# Altium schematic symbol library 水下机器人电调控制板2020.SchLib: 40 symbols
Pins are listed as number, name and electrical type; pins without a type are passive.

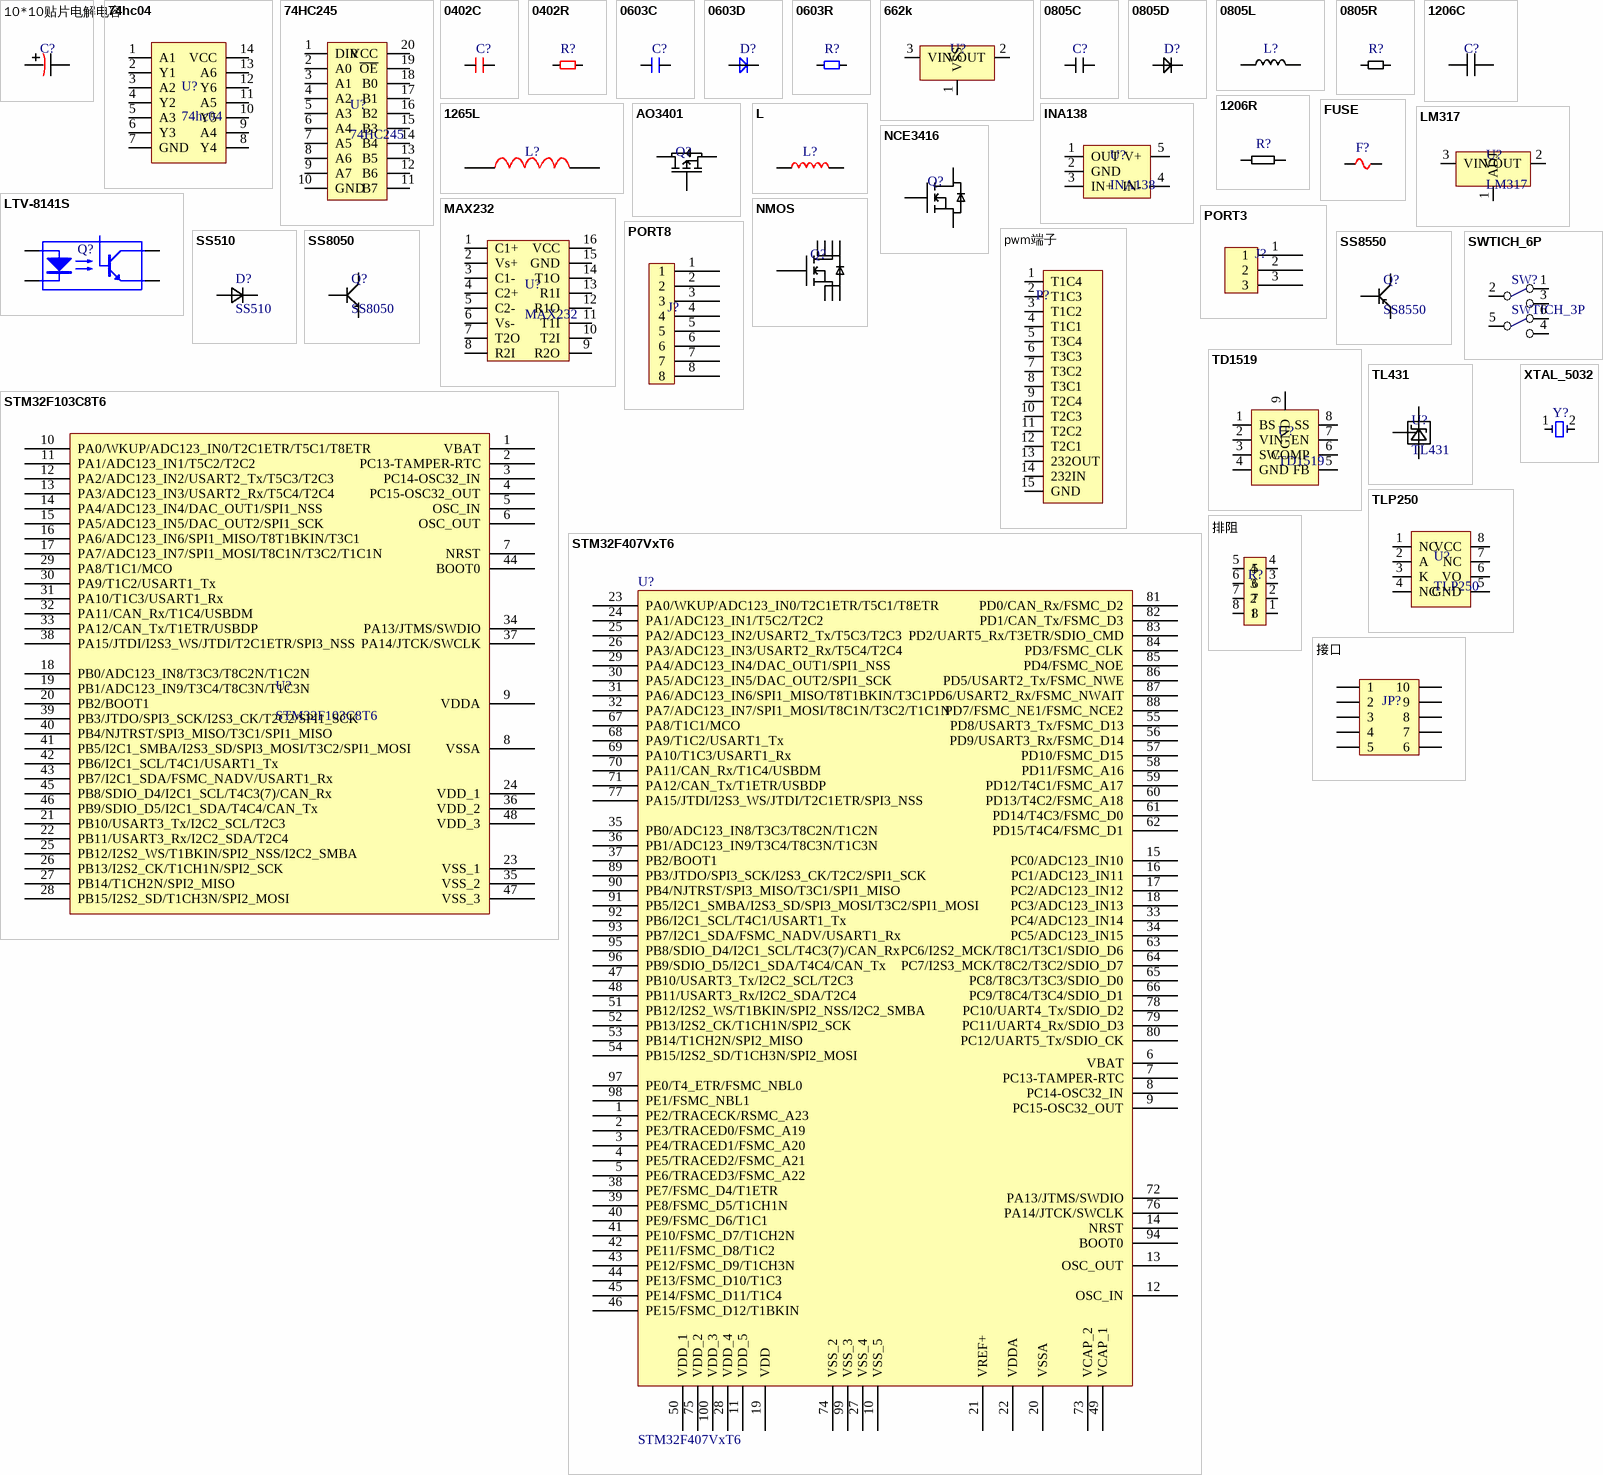
[diagram p0: symbols 10*10贴片电解电容 to 接口]

## 10*10贴片电解电容
designator C?
footprint CAP-10*10.2 (贴片电解电容，10*10.5)
pins: 1, 2

## 74hc04
designator U?
footprint SOP14-1
pins: 1 A1, 2 Y1, 3 A2, 4 Y2, 5 A3, 6 Y3, 7 GND, 8 Y4, 9 A4, 10 Y5, 11 A5, 12 Y6, 13 A6, 14 VCC

## 74HC245
designator U?
footprint TSSOP20-OR65-4R40
pins: 1 DIR, 2 A0, 3 A1, 4 A2, 5 A3, 6 A4, 7 A5, 8 A6, 9 A7, 10 GND, 11 B7, 12 B6, 13 B5, 14 B4, 15 B3, 16 B2, 17 B1, 18 B0, 19 ~{OE}, 20 VCC

## 0402C
designator C?
footprint 0402C
pins: 1, 2

## 0402R
designator R?
footprint 0402R
pins: 1, 2

## 0603C
designator C?
footprint 0603C
pins: 1, 2

## 0603D
designator D?
footprint 0603D
pins: 1, 2

## 0603R
designator R?
footprint 0603R
pins: 1, 2

## 662k
designator U?
footprint SOT23-3
pins: 1 VSS, 2 VOUT, 3 VIN

## 0805C
designator C?
footprint 0805C
pins: 1, 2

## 0805D
designator D?
footprint 0805D
pins: 1, 2

## 0805L
designator L?
footprint 0805L
pins: 1, 2

## 0805R
designator R?
footprint 0805R
pins: 1, 2

## 1206C
designator C?
footprint 1206C
pins: 1, 2

## 1206R
designator R?
footprint 1206R
footprint 3920
pins: 1, 2

## 1265L
designator L?
footprint 1265L
pins: 1, 2

## AO3401
designator Q?
footprint SOT23-3
pins: 1 G, 2 S, 3 D

## FUSE
designator F?  (value not drawn)
footprint 0805R
pins: 1, 2

## INA138
designator U?
footprint SOT23-5
pins: 1 OUT (power), 2 GND (power), 3 IN+ (power), 4 IN- (power), 5 V+ (power)

## L
designator L?
footprint 0420L
footprint 磁棒电感
pins: 1, 2

## LM317
designator U?
footprint TO252-3
pins: 1 ADJ, 2 VOUT, 3 VIN

## LTV-8141S
designator Q?, comment 光耦  (value not drawn)
footprint DIP4
pins: 1 LED Anode, 2 LED Cathode, 3 Emitter, 4 Collector

## MAX232
designator U?
footprint SOP16
pins: 1 C1+, 2 Vs+, 3 C1-, 4 C2+, 5 C2-, 6 Vs-, 7 T2O, 8 R2I, 9 R2O, 10 T2I, 11 T1I, 12 R1O, 13 R1I, 14 T1O, 15 GND, 16 VCC

## NCE3416
designator Q?
footprint SOT23-3
pins: 1 G, 2 D, 3 S

## NMOS
designator Q?
footprint DFN5X6-8L
pins: 1 S, 2 S, 3 S, 4 G, 5 S, 6 S, 7 S, 8 S

## PORT3
designator J?
footprint PORT3
pins: 1, 2, 3

## PORT8
designator J?
footprint PORT8
pins: 1, 2, 3, 4, 5, 6, 7, 8

## pwm端子
designator P?  (value not drawn)
footprint PWM端子
pins: 1 T1C4 (power), 2 T1C3 (power), 3 T1C2 (power), 4 T1C1 (power), 5 T3C4 (power), 6 T3C3 (power), 7 T3C2 (power), 8 T3C1 (power), 9 T2C4 (power), 10 T2C3 (power), 11 T2C2 (power), 12 T2C1 (power), 13 232OUT (power), 14 232IN (power), 15 GND (power)

## SS510
designator D?
footprint SMa
pins: 1, 2

## SS8050
designator Q?
footprint SOT23-3
pins: 1 B, 2 E, 3 C

## SS8550
designator Q?
footprint SOT23-3
pins: 1 B, 2 E, 3 C

## STM32F103C8T6
designator U?
footprint QFP48
pins: 1 VBAT, 2 PC13-TAMPER-RTC, 3 PC14-OSC32_IN, 4 PC15-OSC32_OUT, 5 OSC_IN, 6 OSC_OUT, 7 NRST, 8 VSSA, 9 VDDA, 10 PA0/WKUP/ADC123_IN0/T2C1ETR/T5C1/T8ETR, 11 PA1/ADC123_IN1/T5C2/T2C2, 12 PA2/ADC123_IN2/USART2_Tx/T5C3/T2C3, 13 PA3/ADC123_IN3/USART2_Rx/T5C4/T2C4, 14 PA4/ADC123_IN4/DAC_OUT1/SPI1_NSS, 15 PA5/ADC123_IN5/DAC_OUT2/SPI1_SCK, 16 PA6/ADC123_IN6/SPI1_MISO/T8T1BKIN/T3C1, 17 PA7/ADC123_IN7/SPI1_MOSI/T8C1N/T3C2/T1C1N, 18 PB0/ADC123_IN8/T3C3/T8C2N/T1C2N, 19 PB1/ADC123_IN9/T3C4/T8C3N/T1C3N, 20 PB2/BOOT1, 21 PB10/USART3_Tx/I2C2_SCL/T2C3, 22 PB11/USART3_Rx/I2C2_SDA/T2C4, 23 VSS_1, 24 VDD_1, 25 PB12/I2S2_WS/T1BKIN/SPI2_NSS/I2C2_SMBA, 26 PB13/I2S2_CK/T1CH1N/SPI2_SCK, 27 PB14/T1CH2N/SPI2_MISO, 28 PB15/I2S2_SD/T1CH3N/SPI2_MOSI, 29 PA8/T1C1/MCO, 30 PA9/T1C2/USART1_Tx, 31 PA10/T1C3/USART1_Rx, 32 PA11/CAN_Rx/T1C4/USBDM, 33 PA12/CAN_Tx/T1ETR/USBDP, 34 PA13/JTMS/SWDIO, 35 VSS_2, 36 VDD_2, 37 PA14/JTCK/SWCLK, 38 PA15/JTDI/I2S3_WS/JTDI/T2C1ETR/SPI3_NSS, 39 PB3/JTDO/SPI3_SCK/I2S3_CK/T2C2/SPI1_SCK, 40 PB4/NJTRST/SPI3_MISO/T3C1/SPI1_MISO, 41 PB5/I2C1_SMBA/I2S3_SD/SPI3_MOSI/T3C2/SPI1_MOSI, 42 PB6/I2C1_SCL/T4C1/USART1_Tx, 43 PB7/I2C1_SDA/FSMC_NADV/USART1_Rx, 44 BOOT0, 45 PB8/SDIO_D4/I2C1_SCL/T4C3(7)/CAN_Rx, 46 PB9/SDIO_D5/I2C1_SDA/T4C4/CAN_Tx, 47 VSS_3, 48 VDD_3

## STM32F407VxT6
designator U?
footprint LQFP-100_M (Thin QFP, 100)
pins: 1 PE2/TRACECK/RSMC_A23, 2 PE3/TRACED0/FSMC_A19, 3 PE4/TRACED1/FSMC_A20, 4 PE5/TRACED2/FSMC_A21, 5 PE6/TRACED3/FSMC_A22, 6 VBAT, 7 PC13-TAMPER-RTC, 8 PC14-OSC32_IN, 9 PC15-OSC32_OUT, 10 VSS_5, 11 VDD_5, 12 OSC_IN, 13 OSC_OUT, 14 NRST, 15 PC0/ADC123_IN10, 16 PC1/ADC123_IN11, 17 PC2/ADC123_IN12, 18 PC3/ADC123_IN13, 19 VDD, 20 VSSA, 21 VREF+, 22 VDDA, 23 PA0/WKUP/ADC123_IN0/T2C1ETR/T5C1/T8ETR, 24 PA1/ADC123_IN1/T5C2/T2C2, 25 PA2/ADC123_IN2/USART2_Tx/T5C3/T2C3, 26 PA3/ADC123_IN3/USART2_Rx/T5C4/T2C4, 27 VSS_4, 28 VDD_4, 29 PA4/ADC123_IN4/DAC_OUT1/SPI1_NSS, 30 PA5/ADC123_IN5/DAC_OUT2/SPI1_SCK, 31 PA6/ADC123_IN6/SPI1_MISO/T8T1BKIN/T3C1, 32 PA7/ADC123_IN7/SPI1_MOSI/T8C1N/T3C2/T1C1N, 33 PC4/ADC123_IN14, 34 PC5/ADC123_IN15, 35 PB0/ADC123_IN8/T3C3/T8C2N/T1C2N, 36 PB1/ADC123_IN9/T3C4/T8C3N/T1C3N, 37 PB2/BOOT1, 38 PE7/FSMC_D4/T1ETR, 39 PE8/FSMC_D5/T1CH1N, 40 PE9/FSMC_D6/T1C1, 41 PE10/FSMC_D7/T1CH2N, 42 PE11/FSMC_D8/T1C2, 43 PE12/FSMC_D9/T1CH3N, 44 PE13/FSMC_D10/T1C3, 45 PE14/FSMC_D11/T1C4, 46 PE15/FSMC_D12/T1BKIN, 47 PB10/USART3_Tx/I2C2_SCL/T2C3, 48 PB11/USART3_Rx/I2C2_SDA/T2C4, 49 VCAP_1, 50 VDD_1, 51 PB12/I2S2_WS/T1BKIN/SPI2_NSS/I2C2_SMBA, 52 PB13/I2S2_CK/T1CH1N/SPI2_SCK, 53 PB14/T1CH2N/SPI2_MISO, 54 PB15/I2S2_SD/T1CH3N/SPI2_MOSI, 55 PD8/USART3_Tx/FSMC_D13, 56 PD9/USART3_Rx/FSMC_D14, 57 PD10/FSMC_D15, 58 PD11/FSMC_A16, 59 PD12/T4C1/FSMC_A17, 60 PD13/T4C2/FSMC_A18, 61 PD14/T4C3/FSMC_D0, 62 PD15/T4C4/FSMC_D1, 63 PC6/I2S2_MCK/T8C1/T3C1/SDIO_D6, 64 PC7/I2S3_MCK/T8C2/T3C2/SDIO_D7, 65 PC8/T8C3/T3C3/SDIO_D0, 66 PC9/T8C4/T3C4/SDIO_D1, 67 PA8/T1C1/MCO, 68 PA9/T1C2/USART1_Tx, 69 PA10/T1C3/USART1_Rx, 70 PA11/CAN_Rx/T1C4/USBDM, 71 PA12/CAN_Tx/T1ETR/USBDP, 72 PA13/JTMS/SWDIO, 73 VCAP_2, 74 VSS_2, 75 VDD_2, 76 PA14/JTCK/SWCLK, 77 PA15/JTDI/I2S3_WS/JTDI/T2C1ETR/SPI3_NSS, 78 PC10/UART4_Tx/SDIO_D2, 79 PC11/UART4_Rx/SDIO_D3, 80 PC12/UART5_Tx/SDIO_CK, 81 PD0/CAN_Rx/FSMC_D2, 82 PD1/CAN_Tx/FSMC_D3, 83 PD2/UART5_Rx/T3ETR/SDIO_CMD, 84 PD3/FSMC_CLK, 85 PD4/FSMC_NOE, 86 PD5/USART2_Tx/FSMC_NWE, 87 PD6/USART2_Rx/FSMC_NWAIT, 88 PD7/FSMC_NE1/FSMC_NCE2, 89 PB3/JTDO/SPI3_SCK/I2S3_CK/T2C2/SPI1_SCK, 90 PB4/NJTRST/SPI3_MISO/T3C1/SPI1_MISO, 91 PB5/I2C1_SMBA/I2S3_SD/SPI3_MOSI/T3C2/SPI1_MOSI, 92 PB6/I2C1_SCL/T4C1/USART1_Tx, 93 PB7/I2C1_SDA/FSMC_NADV/USART1_Rx, 94 BOOT0, 95 PB8/SDIO_D4/I2C1_SCL/T4C3(7)/CAN_Rx, 96 PB9/SDIO_D5/I2C1_SDA/T4C4/CAN_Tx, 97 PE0/T4_ETR/FSMC_NBL0, 98 PE1/FSMC_NBL1, 99 VSS_3, 100 VDD_3

## SWTICH_6P
designator SW?, comment SWTICH_3P
footprint 开关6p
pins: 1, 2, 3, 4, 5, 6

## TD1519
designator U?
footprint SOP8-PAD
pins: 1 BS (power), 2 VIN (power), 3 SW (power), 4 GND (power), 5 FB (power), 6 COMP (power), 7 EN (power), 8 SS (power), 9 GND (power)

## TL431
designator U?
footprint SOT23-3
pins: 1 REF, 2 CAT, 3 AN

## TLP250
designator U?
footprint DIP8-300X390
pins: 1 NC (power), 2 A (power), 3 K (power), 4 NC (power), 5 GND (power), 6 VO (power), 7 NC (power), 8 VCC (power)

## XTAL_5032
designator Y?  (value not drawn)
footprint XTAL_5032
footprint XTAL
pins: 1, 2

## 排阻
designator R?
footprint 0603RA
pins: 1, 2, 3, 4, 5, 6, 7, 8

## 接口
designator JP?
footprint STLINK
footprint DC3-10P-弯针
pins: 1, 2, 3, 4, 5, 6, 7, 8, 9, 10